# EAGLE library part SN65HVD1782QDRQ1 (library SN65HVD1782QDRQ1)
Automotive Fault-Protected RS-485 Transceivers with 3.3-V to 5-V Operation Source: Datasheet <http://www.ti.com/lit/ds/symlink/sn65hvd1782-q1.pdf>
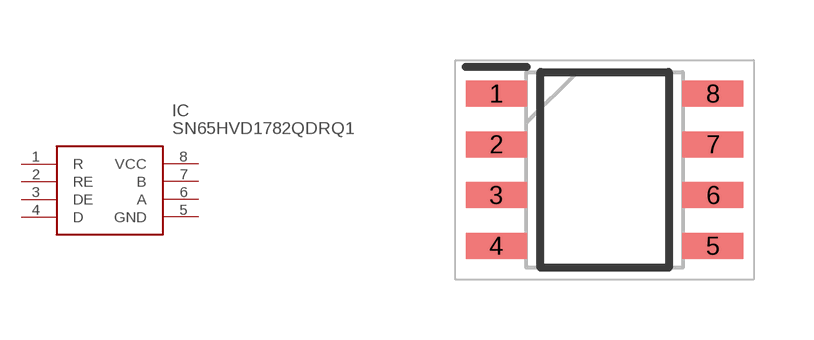
[diagram p0: symbol with the pads of SOIC127P600X175-8N; footprint SOIC127P600X175-8N]

Designator prefix IC

## SN65HVD1782QDRQ1 (Arrow_Part_Number: SN65HVD1782QDRQ1; Arrow_Price-Stock: https://www.arrow.com/en/products/sn65hvd1782qdrq1/texas-instruments?region=nac; Description: Automotive Fault-Protected RS-485 Transceivers with 3.3-V to 5-V Operation; Height: 1.75mm; Manufacturer_Name: Texas Instruments; Manufacturer_Part_Number: SN65HVD1782QDRQ1; Mouser_Part_Number: 595-SN65HVD1782QDRQ1; Mouser_Price-Stock: https://www.mouser.co.uk/ProductDetail/Texas-Instruments/SN65HVD1782QDRQ1?qs=8%2FmU9qzJpL8mmEwMbjC79g%3D%3D)  [SOIC127P600X175-8N]
1  R
2  RE
3  DE
4  D
5  GND
6  A
7  B
8  VCC

## Footprint SOIC127P600X175-8N (pad centres in mm)
D (R-PDSO-G8)
smd 1.525 x 0.65: 1 -2.712,1.905; 2 -2.712,0.635; 3 -2.712,-0.635; 4 -2.712,-1.905; 5 2.712,-1.905; 6 2.712,-0.635; 7 2.712,0.635; 8 2.712,1.905